# Altium footprint library footprints.PcbLib: 4 footprints
Each footprint in its own frame and in the unit in brackets; x right, y up, seen from the top. Pads: shape width x height; smd on the part's side, far side on the other; paste and mask are expansions set on the pad; w line width, h text height; cw(c..) or ccw(c..) is an arc to the next point about the centre after c.
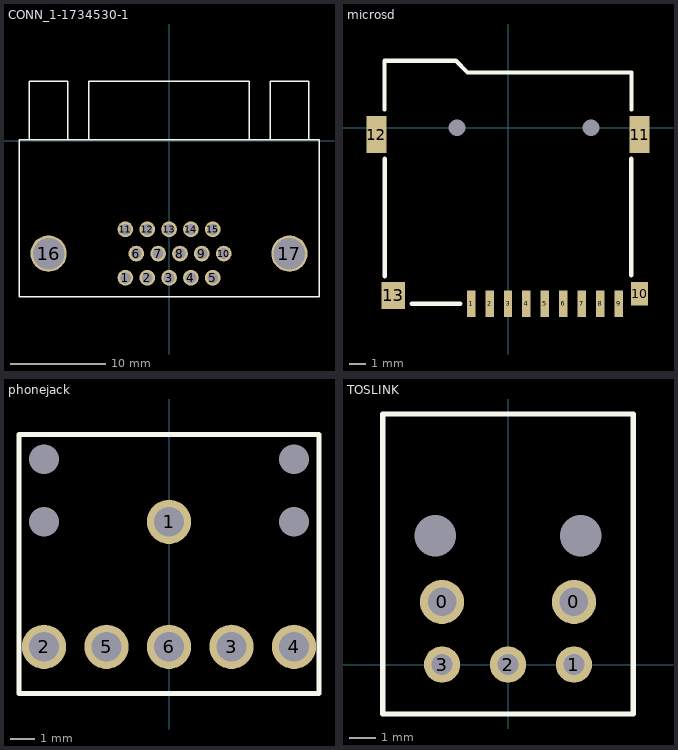
[diagram p0: the footprints below, top view; thin cyan lines are the x and y axes]

## CONN_1-1734530-1 [mil]
pads (17):
  round 65 / inner round 60 / far side round 65 hole 45: 1(-180,-565) 2(-89.84,-565) 3(0.32,-565) 4(90.48,-565) 5(180.64,-565) 6(-135,-465) 7(-44.84,-465) 8(45.31,-465) 9(135.47,-465) 10(225.63,-465) 11(-180,-365) 12(-89.84,-365) 13(0.32,-365) 14(90.47,-365) 15(180.63,-365)
  round 150 / inner round 60 / far side round 150 hole 130: 16(-497,-465) 17(497,-465)
Top Overlay:
  lines w6: -577,5 -577,247 -417,247 -417,5 ; 417,5 417,247 577,247 577,5 ; -619,-644 619,-644 619,5 -619,5 -619,-644 ; -331,5 -331,247 331,247 331,5 -331,5
3D body: height 10, standoff 0, extent 0,0 10,10

## microsd [mm]
pads (15):
  rect 0.5x1.6 smd: 1(-2.2,-10.5) 2(-1.1,-10.5) 3(0,-10.5) 4(1.1,-10.5) 5(2.2,-10.5) 6(3.3,-10.5) 7(4.4,-10.5) 8(5.5,-10.5) 9(6.6,-10.5)
  rect 1x1.4 smd: 10(7.85,-9.9)
  rect 1.2x2.2 smd: 11(7.85,-0.4) 12(-7.85,-0.4)
  rect 1.4x1.6 smd: 13(-6.85,-10)
  round 0 hole 1 unplated mask-1: ""(-3.05,0) ""(4.95,0)
Top Overlay:
  lines w0.254: -7.366,1.1 -7.366,4 -3.111,4 -2.413,3.302 7.366,3.302 7.366,1.1 ; -7.35,-8.85 -7.35,-1.85 ; -5.75,-10.5 -2.85,-10.5 ; 7.35,-8.8 7.35,-1.85

## phonejack [mm]
height 5
pads (10):
  round 1.8 hole 1.2: 1(0,-5.08) 2(-5.08,-10.16) 3(2.54,-10.16) 4(5.08,-10.16) 5(-2.54,-10.16) 6(0,-10.16)
  round 1 hole 1.2 unplated: ""(-5.08,-5.08) ""(-5.08,-2.54) ""(5.08,-5.08) ""(5.08,-2.54)
Top Overlay:
  lines w0.2: -6.096,-12.065 -6.096,-1.524 6.096,-1.524 6.096,-12.065 -6.096,-12.065

## TOSLINK [mm]
pads (7):
  round 1.7 hole 1.1: 0(-2.54,2.413) 0(2.54,2.413)
  round 1.4 hole 0.8: 1(2.54,0) 2(0,0) 3(-2.54,0)
  round 1 hole 1.6 unplated: ""(-2.794,4.953) ""(2.794,4.953)
Top Overlay:
  lines w0.2: -4.826,-1.905 -4.826,9.652 4.826,9.652 4.826,-1.905 -4.826,-1.905